# Altium schematic symbol library FG28X7R1H104KNT061_FG28X7R1H104KNT06.SCHLIB: 1 symbol
Pins are listed as number, name and electrical type; pins without a type are passive.

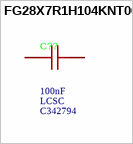
[diagram p0: symbol FG28X7R1H104KNT06]

## FG28X7R1H104KNT06
designator C??, comment Supplier: LCSC  Supplier Part: C342794  (hidden comment: 100nF)
Manufacturer: TDK; Symbol: FG28X7R1H104KNT06; Add into BOM: yes; Tolerance: ±10%; Voltage Rating: 50V; Temperature Coefficient: X7R; Pin Spacing: 5mm; Device: FG28X7R1H104KNT06; LCSC Part Name: 100nF ±10% 50V; Manufacturer Part: FG28X7R1H104KNT06; Supplier Footprint: 插件,P=5mm; JLCPCB Part Class: Extended Part; Datasheet: https://item.szlcsc.com/datasheet/FG28X7R1H104KNT06/319644.html; Convert to PCB: yes; Value: 100nF
footprint CAP-TH_L4.0-W2.5-P5.00-D1.0
3D model CAP-TH_L4.0-W2.5-H5.5-P5.0
pins: 1, 2